# Altium schematic symbol library libv1.SchLib: 82 symbols (part 2 of 3)
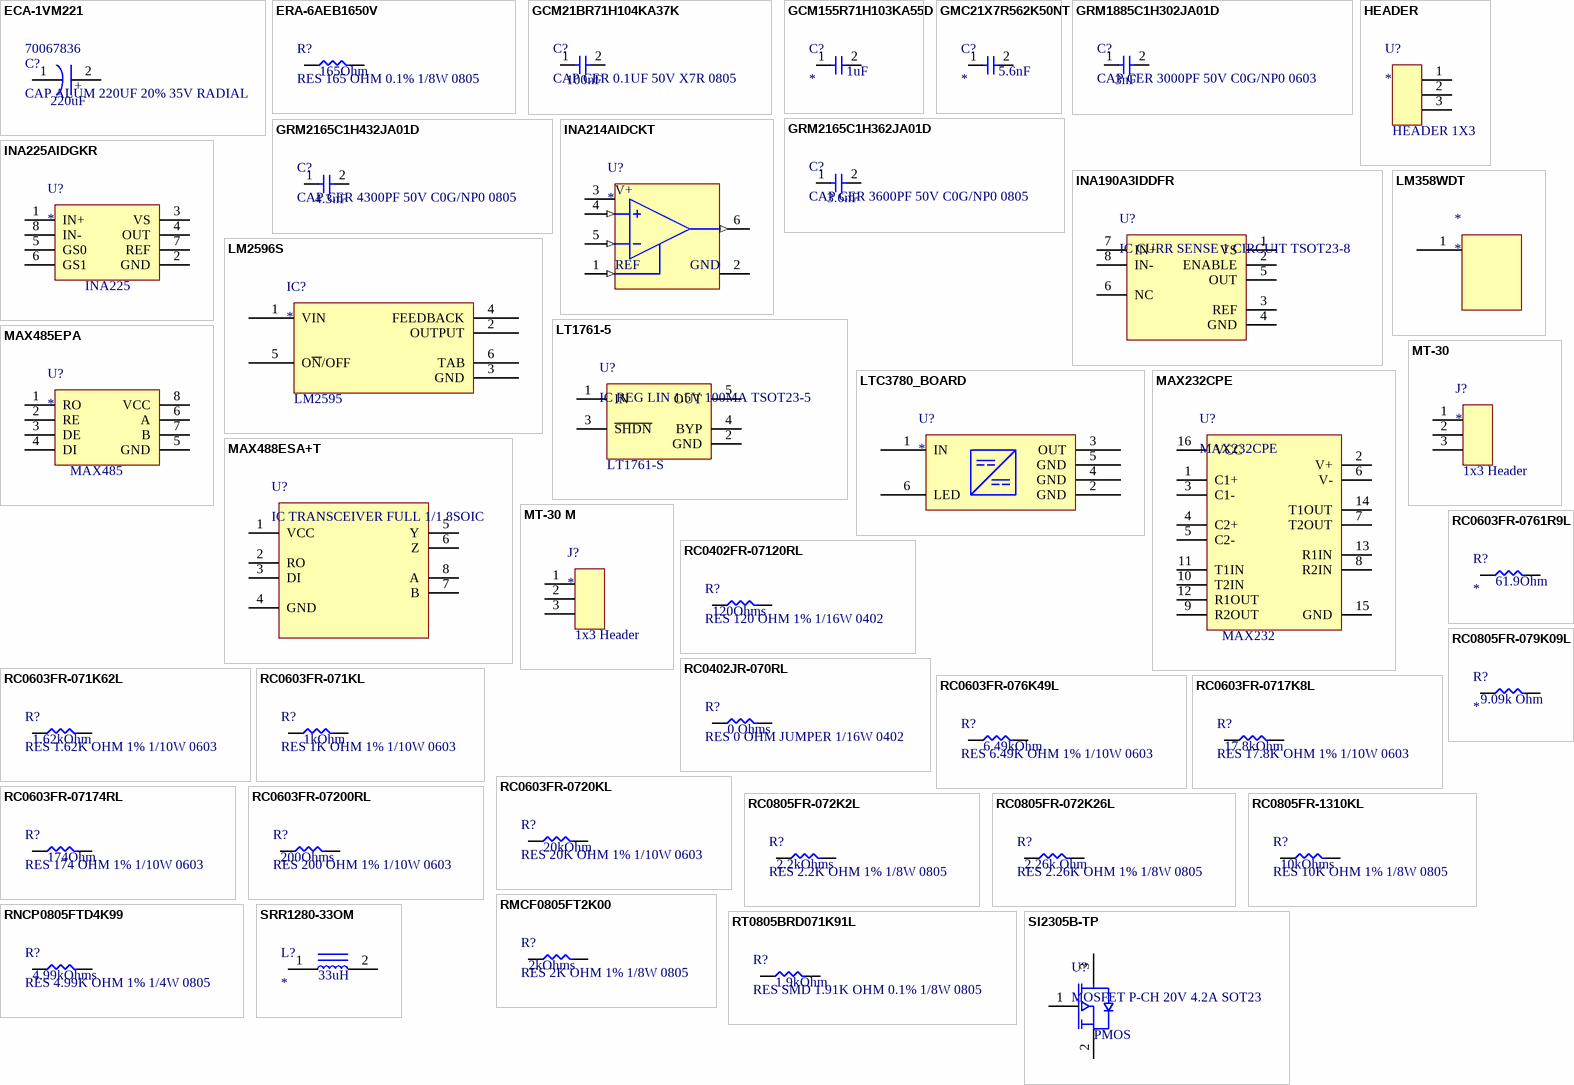
[diagram p3: symbols ECA-1VM221 to SRR1280-33OM]

## ECA-1VM221
designator C?, comment CAP ALUM 220UF 20% 35V RADIAL  Supplier Part Number 2: 70067836
Capacitor; Aluminum Electrolytic; Cap 220uF; Vol-Rtg 35V; Radial; nHg; Manufacturer: Panasonic; Manufacturer Part Number: ECA-1VM220; Dielectric Material: Aluminium; Capacitance: 22uF; Ripple Current: 95mA; Life (Hours): 2000Hour; Lead/Base Style: Straight; Leakage Current: 3uA; Dissipation Factor: 0.14%; Ripple Current (AC): 350mA; Polarity: Polar; Lead Diameter: 0.6mm; Supplier 1: Farnell; RoHS: Yes; Category: Aluminum Electrolytic Capacitors; Stock 1: 5363; Pricing 1: 1=0,37900, 5=0,31800, 10=0,25700, 25=0,25200 (EUR); Mount: Through Hole,PCB; Case/Package: Radial; Contact Plating: Tin; Min Operating Temperature: -40°C; Max Operating Temperature: 85°C; Tolerance: 20%; Termination: Radial; Packaging: Bulk; Package Quantity: 200; Voltage Rating: 35V; Voltage Rating (DC): 35V; Voltage: 35V; Series: M; Construction: RADIAL; Diameter: 5mm; Length: 11mm; Height: 11mm; Lead Pitch: 2mm; Height - Seated (Max): 0.472inch; Radiation Hardening: No; REACH SVHC: No SVHC; Lead Free: Lead Free; RoHS Compliant: Yes; ComponentLink1URL: https://datasheet.ciiva.com/11777/0900766b800274c2-11777874.pdf?src-supplier=RSComponents; ComponentLink1Description: https://datasheet.ciiva.com/11777/0900766b800274c2-11777874.pdf?src-supplier=RSComponents; ComponentLink2URL: https://datasheet.ciiva.com/15197/getdatasheetpartid-470870-15197994.pdf?src-supplier=Verical; ComponentLink2Description: https://datasheet.ciiva.com/15197/getdatasheetpartid-470870-15197994.pdf?src-supplier=Verical; ComponentLink3URL: https://datasheet.ciiva.com/14590/70067785-14590047.pdf?src-supplier=Allied+Electronics; ComponentLink3Description: https://datasheet.ciiva.com/14590/70067785-14590047.pdf?src-supplier=Allied+Electronics; ComponentLink4URL: https://datasheet.ciiva.com/2983/aba0000ce12-2983863.pdf?src-supplier=Avnet; ComponentLink4Description: https://datasheet.ciiva.com/2983/aba0000ce12-2983863.pdf?src-supplier=Avnet; ComponentLink5URL: https://datasheet.ciiva.com/15925/aba0000ce12-15925512.pdf?src-supplier=Onlinecomponents.com; ComponentLink5Description: https://datasheet.ciiva.com/15925/aba0000ce12-15925512.pdf?src-supplier=Onlinecomponents.com; ComponentLink6URL: https://datasheet.ciiva.com/30209/49aba0000ce12-30209319.pdf?src-supplier=Onlinecomponents.com; ComponentLink6Description: https://datasheet.ciiva.com/30209/49aba0000ce12-30209319.pdf?src-supplier=Onlinecomponents.com; ComponentLink7URL: https://datasheet.ciiva.com/17356/aba0000ce12-17356348.pdf?src-supplier=Avnet+Europe; ComponentLink7Description: https://datasheet.ciiva.com/17356/aba0000ce12-17356348.pdf?src-supplier=Avnet+Europe; ComponentLink8URL: https://datasheet.ciiva.com/91/eca-xxmspec-91375.pdf?src-supplier=Digi-Key; ComponentLink8Description: https://datasheet.ciiva.com/91/eca-xxmspec-91375.pdf?src-supplier=Digi-Key; Supplier Part Number 1: 9693645; Supplier 2: Allied Electronics; Stock 2: 19; Pricing 2: 1=0,16400 (USD); Number of Pins: 2; ComponentLink9URL: https://datasheet.ciiva.com/11777/0900766b800274c2-11777872.pdf?src-supplier=RSComponents; ComponentLink9Description: https://datasheet.ciiva.com/11777/0900766b800274c2-11777872.pdf?src-supplier=RSComponents; ComponentLink10URL: https://datasheet.ciiva.com/26341/441851-da-01-en-elko-eca1vm221-m-r-220myf-35v-85c-26341906.pdf?src-supplier=Conrad; ComponentLink10Description: https://datasheet.ciiva.com/26341/441851-da-01-en-elko-eca1vm221-m-r-220myf-35v-85c-26341906.pdf?src-supplier=Conrad; ComponentLink11URL: https://datasheet.ciiva.com/24023/aba0000ce12-465472-24023260.pdf?src-supplier=Mouser; ComponentLink11Description: https://datasheet.ciiva.com/24023/aba0000ce12-465472-24023260.pdf?src-supplier=Mouser; ComponentLink12URL: https://datasheet.ciiva.com/14590/70067785-14590042.pdf?src-supplier=Allied+Electronics; ComponentLink12Description: https://datasheet.ciiva.com/14590/70067785-14590042.pdf?src-supplier=Allied+Electronics; ComponentLink13URL: https://datasheet.ciiva.com/14601/70067785-14601242.pdf?src-supplier=Allied+Electronics; ComponentLink13Description: https://datasheet.ciiva.com/14601/70067785-14601242.pdf?src-supplier=Allied+Electronics; ComponentLink14URL: https://datasheet.ciiva.com/43485/aba0000ce12-43485334.pdf?src-supplier=Farnell; ComponentLink14Description: https://datasheet.ciiva.com/43485/aba0000ce12-43485334.pdf?src-supplier=Farnell; ComponentLink15URL: https://datasheet.ciiva.com/46387/1907780-46387398.pdf?src-supplier=Element14; ComponentLink15Description: https://datasheet.ciiva.com/46387/1907780-46387398.pdf?src-supplier=Element14; ComponentLink16URL: https://datasheet.ciiva.com/2983/aba0000ce12-2983864.pdf?src-supplier=Avnet; ComponentLink16Description: https://datasheet.ciiva.com/2983/aba0000ce12-2983864.pdf?src-supplier=Avnet; ComponentLink17URL: https://datasheet.ciiva.com/16426/aba0000ce12-16426383.pdf?src-supplier=Future+Electronics; ComponentLink17Description: https://datasheet.ciiva.com/16426/aba0000ce12-16426383.pdf?src-supplier=Future+Electronics; ComponentLink18URL: https://datasheet.ciiva.com/15166/getdatasheetpartid-178468-15166214.pdf?src-supplier=Verical; ComponentLink18Description: https://datasheet.ciiva.com/15166/getdatasheetpartid-178468-15166214.pdf?src-supplier=Verical; ComponentLink19URL: https://datasheet.ciiva.com/17356/aba0000ce12-17356350.pdf?src-supplier=Avnet+Europe; ComponentLink19Description: https://datasheet.ciiva.com/17356/aba0000ce12-17356350.pdf?src-supplier=Avnet+Europe
footprint ECA-1VM221
pins: 1, 2
text: +; 220uF

## ERA-6AEB1650V
designator R?, comment RES 165 OHM 0.1% 1/8W 0805
165 Ohms ±0.1% 0.125W, 1/8W Chip Resistor 0805 (2012 Metric) Automotive AEC-Q200 Thin Film
footprint ERA-6AEB1650V
pins: 1, 2
text: 165Ohm

## GCM21BR71H104KA37K
designator C?, comment CAP CER 0.1UF 50V X7R 0805
0.1 µF ±10% 50V Ceramic Capacitor X7R 0805 (2012 Metric)
footprint GCM21BR71H104KA37K
pins: 1, 2
text: 100nF

## GCM155R71H103KA55D
designator C?
0402 10 nF 50 V ±10 % Tolerance X7R Surface Mount Multilayer Ceramic Capacitor; Manufacturer: Murata; Manufacturer Part Number: GCM155R71H103KA55D; Capacitance: 10nF; Tolerance: 10%; Voltage Rating: 50V; Supplier 1: Digi-Key; RoHS: Yes; Category: Ceramic Capacitors; Stock 1: 21977680; Pricing 1: 10000=0,00504, 20000=0,00480 (USD); Mount: Surface Mount; Case/Package: 0402; Case Code (Imperial): 0402; Case Code (Metric): 1005; Min Operating Temperature: -55°C; Max Operating Temperature: 125°C; Dielectric: X7R; Packaging: Tape and Reel; Package Quantity: 1; Termination: SMD/SMT; Voltage: 50V; Voltage Rating (DC): 50V; Series: GCM; Construction: Flat; Length: 1mm; Width: 0.02inch; Height: 0.5mm; Thickness: 0.022inch; Depth: 0.5mm; Ratings: AEC-Q200; Radiation Hardening: No; REACH SVHC: No SVHC; Lead Free: Lead Free; RoHS Compliant: Yes; ComponentLink1URL: https://datasheet.ciiva.com/16199/product-16199584.pdf?src-supplier=Future+Electronics; ComponentLink1Description: https://datasheet.ciiva.com/16199/product-16199584.pdf?src-supplier=Future+Electronics; ComponentLink2URL: https://datasheet.ciiva.com/18100/getdatasheetpartid-27433-18100656.pdf?src-supplier=Verical; ComponentLink2Description: https://datasheet.ciiva.com/18100/getdatasheetpartid-27433-18100656.pdf?src-supplier=Verical; ComponentLink3URL: https://datasheet.ciiva.com/130/product-130682.pdf?src-supplier=Digi-Key; ComponentLink3Description: https://datasheet.ciiva.com/130/product-130682.pdf?src-supplier=Digi-Key; ComponentLink4URL: https://datasheet.ciiva.com/11787/0900766b80ef92d0-11787082.pdf?src-supplier=RSComponents; ComponentLink4Description: https://datasheet.ciiva.com/11787/0900766b80ef92d0-11787082.pdf?src-supplier=RSComponents; ComponentLink5URL: https://datasheet.ciiva.com/130/product-130683.pdf?src-supplier=Digi-Key; ComponentLink5Description: https://datasheet.ciiva.com/130/product-130683.pdf?src-supplier=Digi-Key; ComponentLink6URL: https://datasheet.ciiva.com/130/product-130684.pdf?src-supplier=Digi-Key; ComponentLink6Description: https://datasheet.ciiva.com/130/product-130684.pdf?src-supplier=Digi-Key; ComponentLink7URL: https://datasheet.ciiva.com/2989/product-2989235.pdf?src-supplier=Avnet; ComponentLink7Description: https://datasheet.ciiva.com/2989/product-2989235.pdf?src-supplier=Avnet; ComponentLink8URL: https://datasheet.ciiva.com/16624/product-16624550.pdf?src-supplier=Avnet+Europe; ComponentLink8Description: https://datasheet.ciiva.com/16624/product-16624550.pdf?src-supplier=Avnet+Europe; Supplier Part Number 1: 490-4762-2-ND
footprint GCM155R71H103KA55D
pins: 1, 2
text: 1uF

## GMC21X7R562K50NT
designator C?
5600 pF ±10% 50V Ceramic Capacitor X7R 0805 (2012 Metric)
footprint GMC21X7R562K50NT
pins: 1, 2
text: 5.6nF

## GRM1885C1H302JA01D
designator C?, comment CAP CER 3000PF 50V C0G/NP0 0603
3000 pF ±5% 50V Ceramic Capacitor C0G, NP0 0603 (1608 Metric)
footprint GRM1885C1H302JA01D
pins: 1, 2
text: 3nF

## GRM2165C1H362JA01D
designator C?, comment CAP CER 3600PF 50V C0G/NP0 0805
3600 pF ±5% 50V Ceramic Capacitor C0G, NP0 0805 (2012 Metric)
footprint GRM2165C1H432JA01D
pins: 1, 2
text: 3.6nF

## GRM2165C1H432JA01D
designator C?, comment CAP CER 4300PF 50V C0G/NP0 0805
4300 pF ±5% 50V Ceramic Capacitor C0G, NP0 0805 (2012 Metric)
footprint GRM2165C1H432JA01D
pins: 1, 2
text: 4.3nF

## HEADER
designator U?
footprint MT-30
pins: 1, 2, 3
text: HEADER 1X3

## INA190A3IDDFR
designator U?, comment IC CURR SENSE 1 CIRCUIT TSOT23-8
Current Sense Amplifier 1 Circuit Rail-to-Rail TSOT-23-8; Manufacturer: Texas Instruments; Manufacturer Part Number: INA190A3IDDFR; Supplier 1: Digi-Key; RoHS: Yes; Stock 1: 2977; Pricing 1: 1=2,92000, 10=2,62400, 25=2,48040, 100=2,14970, 250=2,03944, 500=1,82998, 1000=1,82000 (USD); Supplier 2: Digi-Key; Stock 2: 2977; Pricing 2: 1=2,92000, 10=2,62400, 25=2,48040, 100=2,14970, 250=2,03944, 500=1,82998, 1000=1,82000 (USD); Supplier Part Number 2: 296-INA190A3IDDFRCT-ND
footprint INA190A3IDDFR
pins: 1 VS, 2 ENABLE, 3 REF, 4 GND, 5 OUT, 6 NC, 7 IN+, 8 IN-

## INA214AIDCKT
designator U?
26V, bi-directional, high-precision current sense amplifier 6-SC70 -40 to 125; Manufacturer: Texas Instruments; Manufacturer Part Number: INA214AIDCKT; Min Supply Voltage: 2.7V; Gain Bandwidth Product: 30kHz; Bandwidth: 14kHz; Number of Channels: 1; Common Mode Rejection Ratio: 105dB; Nominal Supply Current: 65uA; Operating Supply Voltage: 24V; Accuracy: 1%; Input Offset Voltage (Vos): 60uV; Input Bias Current: 35uA; Voltage Gain: 40dB; Power Supply Rejection Ratio (PSRR): 140dB; Operating Supply Current: 115uA; Slew Rate: 0.04V/µs; Supplier 1: Digi-Key; RoHS: Yes; Category: Amplifiers - Op Amps, Buffer, Instrumentation; Stock 1: 10650; Pricing 1: 1=1,61000, 10=1,44900, 25=1,36720, 100=1,16500 (USD); Mount: Surface Mount; Case/Package: SC; Number of Pins: 6; Weight: 8.8E-05oz; Contact Plating: Gold; Min Operating Temperature: -40°C; Max Operating Temperature: 125°C; Max Supply Voltage: 26V; Packaging: Tape and Reel; Unity Gain Bandwidth Product: 14kHz; Package Quantity: 1; Number of Elements: 1; Min Input Voltage: 2.7V; Max Input Voltage: 26V; Number of Amplifiers: 1; Termination: SMD/SMT; Length: 2mm; Width: 1.25mm; Height: 0.9mm; Radiation Hardening: No; Lead Free: Lead Free; RoHS Compliant: Yes; REACH SVHC: No SVHC; ComponentLink1URL: https://datasheet.ciiva.com/1484/1831249-1484622.pdf?src-supplier=Element14; ComponentLink1Description: https://datasheet.ciiva.com/1484/1831249-1484622.pdf?src-supplier=Element14; ComponentLink2URL: https://datasheet.ciiva.com/15128/getdatasheetpartid-303216-15128686.pdf?src-supplier=Verical; ComponentLink2Description: https://datasheet.ciiva.com/15128/getdatasheetpartid-303216-15128686.pdf?src-supplier=Verical; ComponentLink3URL: https://datasheet.ciiva.com/1484/1772621-1484621.pdf?src-supplier=Element14; ComponentLink3Description: https://datasheet.ciiva.com/1484/1772621-1484621.pdf?src-supplier=Element14; ComponentLink4URL: https://datasheet.ciiva.com/22693/1848953-22693509.pdf?src-supplier=Element14; ComponentLink4Description: https://datasheet.ciiva.com/22693/1848953-22693509.pdf?src-supplier=Element14; ComponentLink5URL: https://datasheet.ciiva.com/46407/1772621-46407887.pdf?src-supplier=Element14; ComponentLink5Description: https://datasheet.ciiva.com/46407/1772621-46407887.pdf?src-supplier=Element14; ComponentLink6URL: https://datasheet.ciiva.com/1939/ina210-1939613.pdf?src-supplier=Digi-Key; ComponentLink6Description: https://datasheet.ciiva.com/1939/ina210-1939613.pdf?src-supplier=Digi-Key; ComponentLink7URL: https://datasheet.ciiva.com/1939/ina210-1939612.pdf?src-supplier=Digi-Key; ComponentLink7Description: https://datasheet.ciiva.com/1939/ina210-1939612.pdf?src-supplier=Digi-Key; ComponentLink8URL: https://datasheet.ciiva.com/1939/ina210-1939614.pdf?src-supplier=Digi-Key; ComponentLink8Description: https://datasheet.ciiva.com/1939/ina210-1939614.pdf?src-supplier=Digi-Key; ComponentLink9URL: https://datasheet.ciiva.com/2978/ina213-2978049.pdf?src-supplier=Avnet; ComponentLink9Description: https://datasheet.ciiva.com/2978/ina213-2978049.pdf?src-supplier=Avnet; ComponentLink10URL: https://datasheet.ciiva.com/2975/ina213-2975820.pdf?src-supplier=Avnet; ComponentLink10Description: https://datasheet.ciiva.com/2975/ina213-2975820.pdf?src-supplier=Avnet; ComponentLink11URL: https://datasheet.ciiva.com/41457/001013585-da-01-en-ic-current-monito-ina214aidckt-sot-6-tid-41457340.pdf?src-supplier=Conrad; ComponentLink11Description: https://datasheet.ciiva.com/41457/001013585-da-01-en-ic-current-monito-ina214aidckt-sot-6-tid-41457340.pdf?src-supplier=Conrad; Supplier Part Number 1: 296-23422-1-ND
footprint INA214AIDCKT
pins: 1 REF (in), 2 GND (power), 3 V+ (power), 4 IN+ (in), 5 IN- (in), 6 OUT (out)

## INA225AIDGKR
designator U?
ICMONITORPWR/CURBIDIR8VSSOP; Manufacturer: Texas Instruments; Manufacturer Part Number: INA186A3IDDFT; Supplier 1: Digi-Key; RoHS: Yes; Category: Amplifiers - Op Amps, Buffer, Instrumentation; Stock 1: 525; Pricing 1: 1=1,75000, 10=1,57300, 25=1,48400, 100=1,26440 (USD); Supplier 2: Digi-Key; Stock 2: 1921; Pricing 2: 2500=1,38950 (USD); Mount: Surface Mount; Case/Package: VSSOP; Min Operating Temperature: -40°C; Max Operating Temperature: 125°C; Packaging: Cut Tape; Lead Free: Lead Free; RoHS Compliant: Yes; ComponentLink1URL: http://www.ti.com/lit/ds/symlink/ina225.pdf?src-supplier=Digi-Key; ComponentLink1Description: http://www.ti.com/lit/ds/symlink/ina225.pdf?src-supplier=Digi-Key; ComponentLink2URL: http://www.ti.com/general/docs/suppproductinfo.tsp?distId=10&amp;gotoUrl=http%3A%2F%2Fwww.ti.com%2Flit%2Fgpn%2Fina225&src-supplier=Digi-Key; ComponentLink2Description: http://www.ti.com/general/docs/suppproductinfo.tsp?distId=10&amp;gotoUrl=http%3A%2F%2Fwww.ti.com%2Flit%2Fgpn%2Fina225&src-supplier=Digi-Key; ComponentLink3URL: http://www.ti.com/lit/gpn/ina225?src-supplier=Mouser; ComponentLink3Description: http://www.ti.com/lit/gpn/ina225?src-supplier=Mouser; Supplier Part Number 2: 296-46096-2-ND
pins: 1 IN+, 2 GND, 3 VS, 4 OUT, 5 GS0, 6 GS1, 7 REF, 8 IN-
text: INA225

## LM358WDT
designator *
pins: 1

## LM2596S
designator IC?
SIMPLE SWITCHER® 4.5V to 40V, 3A Low Component Count Step-Down Regulator 5-DDPAK/TO-263; Manufacturer: TI National Semiconductor; Manufacturer Part Number: LM2596S-5.0/NOPB; Output Voltage: 5V; Switching Frequency: 173kHz; Number of Outputs: 1; Quiescent Current: 5mA; Output Type: Fixed; Efficiency: 80%; Supplier 1: Mouser; RoHS: Yes; Category: Power Supply Modules; Stock 1: 36; Pricing 1: 1=7,15000, 10=6,46000, 50=6,16000, 100=5,34000, 1000=5,34000, 10000=5,34000 (USD); Mount: Surface Mount; Case/Package: TO-263; Number of Pins: 5; Weight: 0.25lb; Contact Plating: Tin,Matte; Min Operating Temperature: -40°C; Max Operating Temperature: 125°C; Output Current: 3A; Packaging: Rail/Tube; Min Input Voltage: 4.5V; Max Output Current: 3A; Max Input Voltage: 40V; Operating Supply Voltage: 40V; Package Quantity: 45; Series: LM2596; Nominal Output Voltage: 5V; Length: 10.16mm; Width: 8.64mm; Height: 4.57mm; Radiation Hardening: No; Lead Free: Contains Lead; REACH SVHC: No SVHC; Supplier 2: Farnell; Stock 2: 2251; Pricing 2: 1=6,90000, 10=5,63000, 25=5,32000, 50=4,97000, 100=4,62000 (EUR); ComponentLink1Description: Designed By; ComponentLink1URL: Süeda KORKMAZ
footprint LM2596S
pins: 1 VIN, 2 OUTPUT, 3 GND, 4 FEEDBACK, 5 O~{N}/OFF, 6 TAB
text: LM2595

## LT1761-5
designator U?, comment IC REG LIN 1.5V 100MA TSOT23-5
LDO Regulator Pos 1.5V 0.1A 5-Pin TSOT-23 T/R; Manufacturer: Analog Devices / Linear Technology; Manufacturer Part Number: LT1761ES5-1.5#TRMPBF; Max Supply Voltage: 20V; Min Supply Voltage: 2.5V; Dropout Voltage: 300mV; Number of Outputs: 1; Min Input Voltage: 1.8V; Min Current Limit: 110mA; Polarity: Positive; Operating Supply Current: 20uA; Power Supply Rejection Ratio (PSRR): 65dB; Supplier 1: Digi-Key; RoHS: Yes; Category: Voltage Regulators - Linear; Stock 1: 1805; Pricing 1: 1=2,98000, 10=2,67400, 25=2,52800, 100=2,19100, 250=2,07864 (USD); Case/Package: SOT-23-5; Number of Pins: 5; Min Operating Temperature: -40°C; Max Operating Temperature: 125°C; Package Quantity: 1; Output Current: 100mA; Max Output Current: 100mA; Output Voltage: 1.5V; Packaging: Tape and Reel; Max Input Voltage: 20V; Number of Regulators: 1; Max Output Voltage: 1.5V; Termination: SMD/SMT; Series: -; REACH SVHC: No SVHC; Lead Free: Lead Free; RoHS Compliant: Yes; ComponentLink1URL: https://datasheet.ciiva.com/26905/lt1761es5-1-5-trmpbf-26905955.pdf?src-supplier=IIIC; ComponentLink1Description: https://datasheet.ciiva.com/26905/lt1761es5-1-5-trmpbf-26905955.pdf?src-supplier=IIIC; ComponentLink2URL: https://datasheet.ciiva.com/2041/2732-2041159.pdf?src-supplier=Digi-Key; ComponentLink2Description: https://datasheet.ciiva.com/2041/2732-2041159.pdf?src-supplier=Digi-Key; ComponentLink3URL: https://datasheet.ciiva.com/5698/1441932-5698263.pdf?src-supplier=Farnell; ComponentLink3Description: https://datasheet.ciiva.com/5698/1441932-5698263.pdf?src-supplier=Farnell; ComponentLink4URL: https://datasheet.ciiva.com/2041/2732-2041160.pdf?src-supplier=Digi-Key; ComponentLink4Description: https://datasheet.ciiva.com/2041/2732-2041160.pdf?src-supplier=Digi-Key; ComponentLink5URL: https://datasheet.ciiva.com/2041/2732-2041161.pdf?src-supplier=Digi-Key; ComponentLink5Description: https://datasheet.ciiva.com/2041/2732-2041161.pdf?src-supplier=Digi-Key; Supplier Part Number 1: LT1761ES5-1.5#TRMPBFCT-ND
footprint LT1761ES5-1.5#TRMPBF
pins: 1 IN, 2 GND, 3 ~{SHDN}, 4 BYP, 5 OUT
text: LT1761-S

## LTC3780_BOARD
designator U?
footprint LTC3780_BOARD
pins: 1 IN, 2 GND, 3 OUT, 4 GND, 5 GND, 6 LED

## MAX232CPE
designator U?
MAX232 Series 120 kbps 5.5 V Through Hole RS-232 Transceiver - PDIP-16; Manufacturer: Maxim; Manufacturer Part Number: MAX232CPE+; Propagation Delay: 10us; Number of Transmitters: 2; Operating Supply Voltage: 5V; Min Supply Voltage: 4.5V; Max Supply Voltage: 5.5V; Operating Supply Current: 10mA; Number of Transceivers: 1; Supply Type: Single; Supplier 1: Farnell; RoHS: Yes; Category: RS-232 / RS-422 / RS-485 Interface ICs; Stock 1: 9660; Pricing 1: 1=4,80000, 10=3,86000, 25=3,63000, 50=3,48000, 100=3,32000, 250=3,29000, 500=3,24000 (EUR); Mount: Through Hole; Case/Package: PDIP; Number of Pins: 16; Weight: 0.056438oz; Contact Plating: Tin,Matte; Min Operating Temperature: 0°C; Max Operating Temperature: 70°C; Packaging: Rail/Tube; Package Quantity: 25; Number of Receivers: 2; Data Rate: 120Kbps; Interface: RS-232; Logic Function: Transceiver; Number of Drivers: 2; Type: Integrated Circuit (IC); Series: MAX232; Length: 19.43mm; Width: 7.87mm; Height: 4.45mm; Radiation Hardening: No; REACH SVHC: No SVHC; Lead Free: Lead Free; RoHS Compliant: Yes; ComponentLink1URL: https://datasheet.ciiva.com/22828/0900766b807c18c1-22828294.pdf?src-supplier=RSComponents; ComponentLink1Description: https://datasheet.ciiva.com/22828/0900766b807c18c1-22828294.pdf?src-supplier=RSComponents; ComponentLink2URL: https://datasheet.ciiva.com/29306/170049-da-01-en-ic-max232cpe-dip16-29306280.pdf?src-supplier=Conrad; ComponentLink2Description: https://datasheet.ciiva.com/29306/170049-da-01-en-ic-max232cpe-dip16-29306280.pdf?src-supplier=Conrad; ComponentLink3URL: https://datasheet.ciiva.com/26833/max232cpe-26833420.pdf?src-supplier=IIIC; ComponentLink3Description: https://datasheet.ciiva.com/26833/max232cpe-26833420.pdf?src-supplier=IIIC; ComponentLink4URL: https://datasheet.ciiva.com/26833/max232cpe-26833436.pdf?src-supplier=IIIC; ComponentLink4Description: https://datasheet.ciiva.com/26833/max232cpe-26833436.pdf?src-supplier=IIIC; ComponentLink5URL: https://datasheet.ciiva.com/18410/70157118-18410440.pdf?src-supplier=Allied+Electronics; ComponentLink5Description: https://datasheet.ciiva.com/18410/70157118-18410440.pdf?src-supplier=Allied+Electronics; ComponentLink6URL: https://datasheet.ciiva.com/3028/max220-max249-3028373.pdf?src-supplier=Avnet; ComponentLink6Description: https://datasheet.ciiva.com/3028/max220-max249-3028373.pdf?src-supplier=Avnet
footprint MAX232CPE
pins: 1 C1+, 2 V+, 3 C1-, 4 C2+, 5 C2-, 6 V-, 7 T2OUT, 8 R2IN, 9 R2OUT, 10 T2IN, 11 T1IN, 12 R1OUT, 13 R1IN, 14 T1OUT, 15 GND, 16 VCC

## MAX485EPA
designator U?
Single Transmitter/Receiver RS-422/RS-485 8-Pin PDIP N; Manufacturer: Maxim; Manufacturer Part Number: MAX485EPA+; Number of Transmitters: 1; Operating Supply Voltage: 5V; Logic Function: Transceiver; Data Rate: 2.5Mbps; Operating Supply Current: 500uA; Interface: RS-422,RS-485; Min Supply Voltage: 4.75V; Max Supply Voltage: 5.25V; Simplex/Duplex: Half Duplex; Designed By: Süeda KORKMAZ; Supplier 1: Farnell; RoHS: Yes; Category: RS-232 / RS-422 / RS-485 Interface ICs; Stock 1: 298; Pricing 1: 1=5,00000, 10=4,04000, 25=3,95000, 50=3,86000 (EUR); Mount: Through Hole; Case/Package: PDIP; Number of Pins: 8; Weight: 0.032805oz; Contact Plating: Tin,Matte; Min Operating Temperature: -40°C; Max Operating Temperature: 85°C; Packaging: Rail/Tube; Package Quantity: 50; Number of Receivers: 1; Number of Drivers: 1; Number of Transceivers: 1; Series: -; Length: 9.91mm; Width: 7.87mm; Height: 2.03mm; Radiation Hardening: No; REACH SVHC: Unknown; Lead Free: Lead Free; RoHS Compliant: Yes; ComponentLink1URL: https://datasheet.ciiva.com/30478/0900766b811dea1f-30478293.pdf?src-supplier=RSComponents; ComponentLink1Description: https://datasheet.ciiva.com/30478/0900766b811dea1f-30478293.pdf?src-supplier=RSComponents; ComponentLink2URL: https://datasheet.ciiva.com/29306/170075-da-01-en-ic-max485epa-dip8-29306150.pdf?src-supplier=Conrad; ComponentLink2Description: https://datasheet.ciiva.com/29306/170075-da-01-en-ic-max485epa-dip8-29306150.pdf?src-supplier=Conrad; ComponentLink3URL: https://datasheet.ciiva.com/26835/max485epa-26835690.pdf?src-supplier=IIIC; ComponentLink3Description: https://datasheet.ciiva.com/26835/max485epa-26835690.pdf?src-supplier=IIIC; ComponentLink4URL: https://datasheet.ciiva.com/3029/max1487-max491-3029663.pdf?src-supplier=Avnet; ComponentLink4Description: https://datasheet.ciiva.com/3029/max1487-max491-3029663.pdf?src-supplier=Avnet; ComponentLink5URL: https://datasheet.ciiva.com/16489/max1487-max491-16489861.pdf?src-supplier=Avnet+Asia; ComponentLink5Description: https://datasheet.ciiva.com/16489/max1487-max491-16489861.pdf?src-supplier=Avnet+Asia; ComponentLink6URL: https://datasheet.ciiva.com/1713/max1487-max491-1713276.pdf?src-supplier=Digi-Key; ComponentLink6Description: https://datasheet.ciiva.com/1713/max1487-max491-1713276.pdf?src-supplier=Digi-Key
footprint MAX485EPA
pins: 1 RO, 2 RE, 3 DE, 4 DI, 5 GND, 6 A, 7 B, 8 VCC
text: MAX485

## MAX488ESA+T
designator U?, comment IC TRANSCEIVER FULL 1/1 8SOIC
Single Transmitter/Receiver RS-422/RS-485 8-Pin SOIC N T/R / IC TXRX RS485/RS422 8-SOIC; Manufacturer: Maxim; Manufacturer Part Number: MAX488ESA+T; Number of Transmitters: 1; Operating Supply Voltage: 5V; Data Rate: 250Kbps; Logic Function: Transceiver,Receiver; Simplex/Duplex: Full Duplex; Receiver Hysteresis: 70mV; Nominal Supply Current: 250uA; ESD Protection: No; Supplier 1: Mouser; RoHS: Yes; Category: Interface ICs; Stock 1: 513; Pricing 1: 1=3,91000, 10=3,50000, 50=3,30000, 100=3,02000, 1000=2,88000, 10000=2,78000 (USD); Mount: Surface Mount; Case/Package: SOIC; Number of Pins: 8; Contact Plating: Tin,Matte; Min Operating Temperature: -40°C; Max Operating Temperature: 85°C; Packaging: Tape and Reel; Package Quantity: 2500; Number of Receivers: 1; Number of Drivers: 1; Number of Transceivers: 1; Series: -; Supply Current: 250uA; Radiation Hardening: No; RoHS Compliant: Yes; Lead Free: Lead Free; ComponentLink1URL: https://datasheet.ciiva.com/26835/max488esa-t-26835093.pdf?src-supplier=IIIC; ComponentLink1Description: https://datasheet.ciiva.com/26835/max488esa-t-26835093.pdf?src-supplier=IIIC; ComponentLink2URL: https://datasheet.ciiva.com/1774/max1487-max491-1774679.pdf?src-supplier=Digi-Key; ComponentLink2Description: https://datasheet.ciiva.com/1774/max1487-max491-1774679.pdf?src-supplier=Digi-Key; ComponentLink3URL: https://datasheet.ciiva.com/12261/max1487-max491-96074-12261739.pdf?src-supplier=Mouser; ComponentLink3Description: https://datasheet.ciiva.com/12261/max1487-max491-96074-12261739.pdf?src-supplier=Mouser; ComponentLink4URL: https://datasheet.ciiva.com/3030/max1487-max491-3030094.pdf?src-supplier=Avnet; ComponentLink4Description: https://datasheet.ciiva.com/3030/max1487-max491-3030094.pdf?src-supplier=Avnet; ComponentLink5URL: https://datasheet.ciiva.com/16640/max1487-max491-16640622.pdf?src-supplier=Avnet+Europe; ComponentLink5Description: https://datasheet.ciiva.com/16640/max1487-max491-16640622.pdf?src-supplier=Avnet+Europe
footprint MAX488ESA+T
pins: 1 VCC, 2 RO, 3 DI, 4 GND, 5 Y, 6 Z, 7 B, 8 A

## MT-30
designator J?
footprint MT-30
pins: 1, 2, 3
text: 1x3 Header

## MT-30 M
designator J?
footprint MT30-M
pins: 1, 2, 3
text: 1x3 Header

## RC0402FR-07120RL
designator R?, comment RES 120 OHM 1% 1/16W 0402
Res General Purpose Thick Film 0402 120 Ohm 1% 1/16W ±100ppm/°C Molded Paper T/R; Manufacturer: Yageo; Manufacturer Part Number: RC0402FR-07120RL; Resistance: 120R; Power Rating: 62.5mW; Voltage Rating: 50V; Max Power Dissipation: 63mW; Supplier 1: Digi-Key; RoHS: Yes; Category: Chip SMD Resistors; Stock 1: 1648497; Pricing 1: 1=0,10000, 10=0,01600, 100=0,00660, 1000=0,00299, 2500=0,00259, 5000=0,00214 (USD); Case/Package: 0402; Case Code (Imperial): 0402; Case Code (Metric): 1005; Size Code: 0402; Min Operating Temperature: -55°C; Max Operating Temperature: 155°C; Package Quantity: 1; Tolerance: 1%; Packaging: Tape and Reel; Termination: SMD/SMT; Resistor Type: Thick Film; Number of Terminations: 2; Temperature Coefficient: 100ppm/°C; Features: Moisture Resistant; Series: RC; Resistance Tolerance: 1%; Construction: Rectangular; Technology: THICK FILM; Length: 1mm; Width: 0.02inch; Height: 0.016inch; Depth: 0.5mm; REACH SVHC: No SVHC; Military Standard: Not; Lead Free: Lead Free; RoHS Compliant: Yes; ComponentLink1URL: https://datasheet.ciiva.com/11808/0900766b80c66297-11808427.pdf?src-supplier=RSComponents; ComponentLink1Description: https://datasheet.ciiva.com/11808/0900766b80c66297-11808427.pdf?src-supplier=RSComponents; ComponentLink2URL: https://datasheet.ciiva.com/7849/1018594-7849830.pdf?src-supplier=Element14; ComponentLink2Description: https://datasheet.ciiva.com/7849/1018594-7849830.pdf?src-supplier=Element14; ComponentLink3URL: https://datasheet.ciiva.com/12667/pyu-rc0402-51-rohs-l-6-r-12667958.pdf?src-supplier=Mouser; ComponentLink3Description: https://datasheet.ciiva.com/12667/pyu-rc0402-51-rohs-l-6-r-12667958.pdf?src-supplier=Mouser; ComponentLink4URL: https://datasheet.ciiva.com/7849/1018594-7849831.pdf?src-supplier=Element14; ComponentLink4Description: https://datasheet.ciiva.com/7849/1018594-7849831.pdf?src-supplier=Element14; ComponentLink5URL: https://datasheet.ciiva.com/2453/pyu-r-int-thick-7-2453469.pdf?src-supplier=Digi-Key; ComponentLink5Description: https://datasheet.ciiva.com/2453/pyu-r-int-thick-7-2453469.pdf?src-supplier=Digi-Key; ComponentLink6URL: https://datasheet.ciiva.com/2453/pyu-r-int-thick-7-2453470.pdf?src-supplier=Digi-Key; ComponentLink6Description: https://datasheet.ciiva.com/2453/pyu-r-int-thick-7-2453470.pdf?src-supplier=Digi-Key; ComponentLink7URL: https://datasheet.ciiva.com/2453/pyu-r-int-thick-7-2453471.pdf?src-supplier=Digi-Key; ComponentLink7Description: https://datasheet.ciiva.com/2453/pyu-r-int-thick-7-2453471.pdf?src-supplier=Digi-Key; ComponentLink8URL: https://datasheet.ciiva.com/17423/pyu-rc0402-51-rohs-l-6-r-17423999.pdf?src-supplier=Future+Electronics; ComponentLink8Description: https://datasheet.ciiva.com/17423/pyu-rc0402-51-rohs-l-6-r-17423999.pdf?src-supplier=Future+Electronics; Supplier Part Number 1: 311-120LRCT-ND
footprint RC0402FR-07120RL
pins: 1, 2
text: 120Ohms

## RC0402JR-070RL
designator R?, comment RES 0 OHM JUMPER 1/16W 0402
Res Jumper Thick Film 0402 0 Ohm 5% 1/16W Molded SMD Paper T/R; Manufacturer: Yageo; Manufacturer Part Number: RC0402JR-070RL; Resistance: 0mR; Power Rating: 62.5mW; Voltage Rating: 50V; Max Power Dissipation: 63mW; Temperature Coefficient: 200ppm/°C; Supplier 1: Digi-Key; RoHS: Yes; Category: Chip SMD Resistors; Stock 1: 24575445; Pricing 1: 1=0,10000, 10=0,01200, 25=0,00840, 50=0,00640, 100=0,00470, 250=0,00360, 500=0,00288, 1000=0,00212, 5000=0,00152 (USD); Case/Package: 0402; Contact Plating: Tin,Matte; Case Code (Metric): 1005; Case Code (Imperial): 0402; Size Code: 0402; Min Operating Temperature: -55°C; Max Operating Temperature: 155°C; Resistor Type: Thick Film; Packaging: Tape and Reel; Tolerance: 5%; Number of Terminations: 2; Termination: SMD/SMT; Features: Moisture Resistant; Series: RC; Package Quantity: 1; Technology: THICK FILM; Resistance Tolerance: 5%; Construction: Rectangular; Length: 1mm; Width: 0.02inch; Height: 0.016inch; Depth: 0.5mm; Radiation Hardening: No; Lead Free: Lead Free; REACH SVHC: Unknown; RoHS Compliant: Yes; Military Standard: Not; Supplier Part Number 1: 311-0.0JRCT-ND
footprint RC0402JR-070RL
pins: 1, 2
text: 0 Ohms

## RC0603FR-071K62L
designator R?, comment RES 1.62K OHM 1% 1/10W 0603
贴片电阻 1620Ω ± 1.00% 0.1W ± 100ppm/℃ 0603; Manufacturer: Yageo; Manufacturer Part Number: RC0603FR-071K62L; Resistance: 1.62kR; Power Rating: 100mW; Voltage Rating: 75V; Temperature Coefficient: 100ppm/°C; Voltage Rating (DC): 50V; Tolarance: %1; Supplier 1: Avnet; RoHS: Yes; Category: Chip SMD Resistors; Stock 1: 10000; Pricing 1: 5000=0,00294, 10000=0,00293, 20000=0,00293, 30000=0,00195, 40000=0,00195, 50000=0,00195, 500000=0,00194 (USD); Case/Package: 0603; Case Code (Imperial): 0603; Case Code (Metric): 1608; Weight: 7.1E-05oz; Size Code: 0603; Min Operating Temperature: -55°C; Max Operating Temperature: 155°C; Tolerance: 1%; Packaging: Tape and Reel; Termination: SMD/SMT; Resistor Type: Thick Film; Features: Moisture Resistant; Series: RC; Max Power Dissipation: 100mW; Number of Terminations: 2; Construction: Rectangular; Length: 1.6mm; Width: 0.8mm; Height: 0.45mm; Depth: 0.8mm; Military Standard: Not; Lead Free: Lead Free; RoHS Compliant: Yes; ComponentLink1URL: https://datasheet.ciiva.com/15189/getdatasheetpartid-327906-15189637.pdf?src-supplier=Verical; ComponentLink1Description: https://datasheet.ciiva.com/15189/getdatasheetpartid-327906-15189637.pdf?src-supplier=Verical
footprint RC0603FR-071K62L
pins: 1, 2
text: 1.62kOhm

## RC0603FR-071KL
designator R?, comment RES 1K OHM 1% 1/10W 0603
Res Thick Film 0603 1K Ohm 1% 1/10W ±100ppm/°C Molded SMD SMD Paper T/R; Manufacturer: Yageo; Manufacturer Part Number: RC0603FR-071KL; Resistance: 1kR; Power Rating: 100mW; Voltage Rating: 50V; Supplier 1: Digi-Key; RoHS: Yes; Category: Chip SMD Resistors; Stock 1: 10436739; Pricing 1: 5000=0,00312 (USD); Case/Package: 0603; Contact Plating: Tin,Matte; Case Code (Imperial): 0603; Case Code (Metric): 1608; Size Code: 0603; Min Operating Temperature: -55°C; Max Operating Temperature: 155°C; Tolerance: 1%; Packaging: Tape and Reel; Temperature Coefficient: 100ppm/°C; Resistor Type: Thick Film; Termination: SMD/SMT; Features: Moisture Resistant; Series: RC; Max Power Dissipation: 100mW; Number of Terminations: 2; Technology: THICK FILM; Resistance Tolerance: 1%; Construction: Rectangular; Length: 1.6mm; Height: 0.45mm; Depth: 0.8mm; Radiation Hardening: No; REACH SVHC: No SVHC; Lead Free: Lead Free; Military Standard: Not; RoHS Compliant: Yes; ComponentLink1URL: https://datasheet.ciiva.com/11808/0900766b80f96399-11808081.pdf?src-supplier=RSComponents; ComponentLink1Description: https://datasheet.ciiva.com/11808/0900766b80f96399-11808081.pdf?src-supplier=RSComponents; ComponentLink2URL: https://datasheet.ciiva.com/7746/1686128-7746280.pdf?src-supplier=Element14; ComponentLink2Description: https://datasheet.ciiva.com/7746/1686128-7746280.pdf?src-supplier=Element14; ComponentLink3URL: https://datasheet.ciiva.com/7660/1868787-7660790.pdf?src-supplier=Element14; ComponentLink3Description: https://datasheet.ciiva.com/7660/1868787-7660790.pdf?src-supplier=Element14; ComponentLink4URL: https://datasheet.ciiva.com/7983/443971-7983613.pdf?src-supplier=Element14; ComponentLink4Description: https://datasheet.ciiva.com/7983/443971-7983613.pdf?src-supplier=Element14; ComponentLink5URL: https://datasheet.ciiva.com/7746/1738695-7746281.pdf?src-supplier=Element14; ComponentLink5Description: https://datasheet.ciiva.com/7746/1738695-7746281.pdf?src-supplier=Element14; ComponentLink6URL: https://datasheet.ciiva.com/7746/1738695-7746279.pdf?src-supplier=Element14; ComponentLink6Description: https://datasheet.ciiva.com/7746/1738695-7746279.pdf?src-supplier=Element14; ComponentLink7URL: https://datasheet.ciiva.com/8896/pyu-rc0603-51-rohs-l-4-8896106.pdf?src-supplier=Avnet; ComponentLink7Description: https://datasheet.ciiva.com/8896/pyu-rc0603-51-rohs-l-4-8896106.pdf?src-supplier=Avnet; ComponentLink8URL: https://datasheet.ciiva.com/15189/getdatasheetpartid-404327-15189644.pdf?src-supplier=Verical; ComponentLink8Description: https://datasheet.ciiva.com/15189/getdatasheetpartid-404327-15189644.pdf?src-supplier=Verical; ComponentLink9URL: https://datasheet.ciiva.com/28386/pyu-rc0603-51-rohs-l-4-28386648.pdf?src-supplier=Avnet+Europe; ComponentLink9Description: https://datasheet.ciiva.com/28386/pyu-rc0603-51-rohs-l-4-28386648.pdf?src-supplier=Avnet+Europe; ComponentLink10URL: https://datasheet.ciiva.com/25906/pyu-rc0603-51-rohs-l-4-25906933.pdf?src-supplier=Avnet+Europe; ComponentLink10Description: https://datasheet.ciiva.com/25906/pyu-rc0603-51-rohs-l-4-25906933.pdf?src-supplier=Avnet+Europe
footprint RC0603FR-071KL
pins: 1, 2
text: 1kOhm

## RC0603FR-076K49L
designator R?, comment RES 6.49K OHM 1% 1/10W 0603
6.49 kOhms ±1% 0.1W, 1/10W Chip Resistor 0603 (1608 Metric) Moisture Resistant Thick Film
footprint RC0603FR-076K49L
pins: 1, 2
text: 6.49kOhm

## RC0603FR-0717K8L
designator R?, comment RES 17.8K OHM 1% 1/10W 0603
17.8 kOhms ±1% 0.1W, 1/10W Chip Resistor 0603 (1608 Metric) Moisture Resistant Thick Film
pins: 1, 2
text: 17.8kOhm

## RC0603FR-0720KL
designator R?, comment RES 20K OHM 1% 1/10W 0603
Res General Purpose Thick Film 0603 20K Ohm 1% 1/10W ±100ppm/°C Molded SMD Paper T/R; Manufacturer: Yageo; Manufacturer Part Number: RC0603FR-0720KL; Resistance: 20kR; Voltage Rating (DC): 50V; Power Rating: 100mW; Supplier 1: Digi-Key; RoHS: Yes; Category: Chip SMD Resistors; Stock 1: 2535842; Pricing 1: 1=0,10000, 10=0,02400, 100=0,00970, 1000=0,00436, 2500=0,00378 (USD); Case/Package: 0603; Number of Pins: 2; Case Code (Imperial): 0603; Case Code (Metric): 1608; Size Code: 0603; Min Operating Temperature: -55°C; Max Operating Temperature: 155°C; Tolerance: 1%; Resistor Type: Thick Film; Temperature Coefficient: 100ppm/°C; Packaging: Tape and Reel; Voltage Rating: 50V; Package Quantity: 1; Termination: SMD/SMT; Number of Terminations: 2; Max Power Dissipation: 100mW; Features: Moisture Resistant; Series: RC; Technology: THICK FILM; Construction: Rectangular; Resistance Tolerance: 1%; Length: 0.063inch; Width: 0.031inch; Height: 0.022inch; Depth: 0.8mm; Lead Free: Lead Free; RoHS Compliant: Yes; REACH SVHC: No SVHC; Military Standard: Not; ComponentLink1URL: https://datasheet.ciiva.com/11808/0900766b80f96399-11808275.pdf?src-supplier=RSComponents; ComponentLink1Description: https://datasheet.ciiva.com/11808/0900766b80f96399-11808275.pdf?src-supplier=RSComponents; ComponentLink2URL: https://datasheet.ciiva.com/22747/443971-22747525.pdf?src-supplier=Element14; ComponentLink2Description: https://datasheet.ciiva.com/22747/443971-22747525.pdf?src-supplier=Element14; ComponentLink3URL: https://datasheet.ciiva.com/2453/pyu-r-int-thick-7-2453910.pdf?src-supplier=Digi-Key; ComponentLink3Description: https://datasheet.ciiva.com/2453/pyu-r-int-thick-7-2453910.pdf?src-supplier=Digi-Key; ComponentLink4URL: https://datasheet.ciiva.com/2453/pyu-r-int-thick-7-2453911.pdf?src-supplier=Digi-Key; ComponentLink4Description: https://datasheet.ciiva.com/2453/pyu-r-int-thick-7-2453911.pdf?src-supplier=Digi-Key; ComponentLink5URL: https://datasheet.ciiva.com/2453/pyu-r-int-thick-7-2453912.pdf?src-supplier=Digi-Key; ComponentLink5Description: https://datasheet.ciiva.com/2453/pyu-r-int-thick-7-2453912.pdf?src-supplier=Digi-Key; Supplier Part Number 1: 311-20.0KHRCT-ND
footprint RC0603FR-0720KL
pins: 1, 2
text: 20kOhm

## RC0603FR-0761R9L
designator R?
footprint RC0603FR-0761R9L
pins: 1, 2
text: 61.9Ohm

## RC0603FR-07174RL
designator R?, comment RES 174 OHM 1% 1/10W 0603
174 Ohms ±1% 0.1W, 1/10W Chip Resistor 0603 (1608 Metric) Moisture Resistant Thick Film
footprint RC0603FR-07174RL
pins: 1, 2
text: 174Ohm

## RC0603FR-07200RL
designator R?, comment RES 200 OHM 1% 1/10W 0603
Res General Purpose Thick Film 0603 200 Ohm 1% 1/10W ±100ppm/°C Molded SMD Paper T/R; Manufacturer: Yageo; Manufacturer Part Number: RC0201JR-0710KL; Resistance: 10kR; Tolerance: 5%; Temperature Coefficient: 200ppm/°C; Power Rating: 50mW; Voltage Rating: 25V; Working Voltage: 75V; Supplier 1: Digi-Key; RoHS: Yes; Category: Chip SMD Resistors; Stock 1: 588676; Pricing 1: 1=0,10000, 10=0,02900, 100=0,01190, 1000=0,00536, 2500=0,00466, 5000=0,00385 (USD); Case/Package: 0201; Contact Plating: Tin,Matte; Case Code (Imperial): 0201; Case Code (Metric): 0603; Size Code: 0201; Min Operating Temperature: -55°C; Max Operating Temperature: 125°C; Resistor Type: Thick Film; Packaging: Tape and Reel; Termination: SMD/SMT; Voltage Rating (DC): 25V; Features: Moisture Resistant; Series: RC; Max Power Dissipation: 50mW; Number of Terminations: 2; Resistance Tolerance: 5%; Construction: Rectangular; Length: 0.6mm; Depth: 0.3mm; Radiation Hardening: No; REACH SVHC: Unknown; Military Standard: Not; Lead Free: Lead Free; RoHS Compliant: Yes; ComponentLink1URL: https://datasheet.ciiva.com/8891/pyu-rc0201-51-rohs-l-8-8891388.pdf?src-supplier=Avnet; ComponentLink1Description: https://datasheet.ciiva.com/8891/pyu-rc0201-51-rohs-l-8-8891388.pdf?src-supplier=Avnet; ComponentLink2URL: https://datasheet.ciiva.com/7672/1563626-7672253.pdf?src-supplier=Element14; ComponentLink2Description: https://datasheet.ciiva.com/7672/1563626-7672253.pdf?src-supplier=Element14; ComponentLink3URL: https://datasheet.ciiva.com/28405/pyu-rc0201-51-rohs-l-8-28405613.pdf?src-supplier=Avnet+Europe; ComponentLink3Description: https://datasheet.ciiva.com/28405/pyu-rc0201-51-rohs-l-8-28405613.pdf?src-supplier=Avnet+Europe; ComponentLink4URL: https://datasheet.ciiva.com/7672/1563626-7672254.pdf?src-supplier=Element14; ComponentLink4Description: https://datasheet.ciiva.com/7672/1563626-7672254.pdf?src-supplier=Element14; ComponentLink5URL: https://datasheet.ciiva.com/7660/1421516-7660810.pdf?src-supplier=Element14; ComponentLink5Description: https://datasheet.ciiva.com/7660/1421516-7660810.pdf?src-supplier=Element14; ComponentLink6URL: https://datasheet.ciiva.com/16856/pyu-rc0201-51-rohs-l-8-16856011.pdf?src-supplier=Avnet+Europe; ComponentLink6Description: https://datasheet.ciiva.com/16856/pyu-rc0201-51-rohs-l-8-16856011.pdf?src-supplier=Avnet+Europe; ComponentLink7URL: https://datasheet.ciiva.com/46391/1421516-46391291.pdf?src-supplier=Element14; ComponentLink7Description: https://datasheet.ciiva.com/46391/1421516-46391291.pdf?src-supplier=Element14; Supplier Part Number 1: 311-10KNCT-ND; Supplier 2: Digi-Key; Stock 2: 1724081; Pricing 2: 1=0,10000, 10=0,02400, 100=0,00970, 1000=0,00436, 2500=0,00378 (USD); Number of Pins: 2; Package Quantity: 5000; Technology: THICK FILM; Width: 0.8mm; Height: 0.45mm; ComponentLink8URL: https://datasheet.ciiva.com/11809/0900766b80f96399-11809240.pdf?src-supplier=RSComponents; ComponentLink8Description: https://datasheet.ciiva.com/11809/0900766b80f96399-11809240.pdf?src-supplier=RSComponents; ComponentLink9URL: https://datasheet.ciiva.com/46395/443971-46395029.pdf?src-supplier=Element14; ComponentLink9Description: https://datasheet.ciiva.com/46395/443971-46395029.pdf?src-supplier=Element14; Supplier Part Number 2: 311-200HRCT-ND
footprint RC0603FR-07200RL
pins: 1, 2
text: 200Ohms

## RC0805FR-072K2L
designator R?, comment RES 2.2K OHM 1% 1/8W 0805
2.2 kOhms ±1% 0.125W, 1/8W Chip Resistor 0805 (2012 Metric) Moisture Resistant Thick Film
footprint RC0805FR-072K2L
pins: 1, 2
text: 2.2kOhms

## RC0805FR-072K26L
designator R?, comment RES 2.26K OHM 1% 1/8W 0805
footprint RC0805FR-072K26L
pins: 1, 2
text: 2.26k Ohm

## RC0805FR-079K09L
designator R?
Res Thick Film 2.0 x 1.2 mm 9.09K Ohm 1% 0.125W(1/8W) 100ppm/ C Molded SMD Paper T/R; Manufacturer: Yageo; Manufacturer Part Number: RC0805FR-079K09L; Resistance: 9.09kR; Power Rating: 125mW; Voltage Rating: 150V; Temperature Coefficient: 100ppm/°C; Supplier 1: Digi-Key; RoHS: Yes; Category: Chip SMD Resistors; Stock 1: 28243; Pricing 1: 5000=0,00544 (USD); Case/Package: 0805; Case Code (Metric): 2012; Case Code (Imperial): 0805; Size Code: 0805; Min Operating Temperature: -55°C; Max Operating Temperature: 155°C; Tolerance: 1%; Packaging: Tape and Reel; Package Quantity: 1; Resistor Type: Thick Film; Number of Terminations: 2; Termination: SMD/SMT; Max Power Dissipation: 125mW; Voltage Rating (DC): 150V; Features: Moisture Resistant; Series: RC; Construction: Rectangular; Length: 2mm; Width: 0.049inch; Height: 0.024inch; Depth: 1.25mm; Military Standard: Not; Lead Free: Lead Free; RoHS Compliant: Yes; ComponentLink1URL: https://datasheet.ciiva.com/17082/rc0805-17082006.pdf?src-supplier=Future+Electronics; ComponentLink1Description: https://datasheet.ciiva.com/17082/rc0805-17082006.pdf?src-supplier=Future+Electronics; ComponentLink2URL: https://datasheet.ciiva.com/2457/pyu-r-int-thick-7-2457133.pdf?src-supplier=Digi-Key; ComponentLink2Description: https://datasheet.ciiva.com/2457/pyu-r-int-thick-7-2457133.pdf?src-supplier=Digi-Key; ComponentLink3URL: https://datasheet.ciiva.com/2457/pyu-r-int-thick-7-2457131.pdf?src-supplier=Digi-Key; ComponentLink3Description: https://datasheet.ciiva.com/2457/pyu-r-int-thick-7-2457131.pdf?src-supplier=Digi-Key; ComponentLink4URL: https://datasheet.ciiva.com/2457/pyu-r-int-thick-7-2457132.pdf?src-supplier=Digi-Key; ComponentLink4Description: https://datasheet.ciiva.com/2457/pyu-r-int-thick-7-2457132.pdf?src-supplier=Digi-Key
footprint RC0805FR-1310KL
pins: 1, 2
text: 9.09k Ohm

## RC0805FR-1310KL
designator R?, comment RES 10K OHM 1% 1/8W 0805
Res Thick Film 2.0 x 1.2 mm 10K Ohm 1% 0.125W(1/8W) 100ppm/ C Molded SMD Paper T/R; Manufacturer: Yageo; Manufacturer Part Number: RC0805FR-1310KL; Resistance: 10kR; Power Rating: 125mW; Voltage Rating: 150V; Temperature Coefficient: 100ppm/°C; Supplier 1: Digi-Key; RoHS: Yes; Category: Chip SMD Resistors; Stock 1: 79608; Pricing 1: 1=0,10000, 10=0,04200, 100=0,01690, 1000=0,00759, 2500=0,00659, 5000=0,00544 (USD); Case/Package: 0805; Number of Pins: 2; Case Code (Imperial): 0805; Case Code (Metric): 2012; Contact Plating: Tin,Matte,Lead; Min Operating Temperature: -55°C; Max Operating Temperature: 155°C; Tolerance: 1%; Packaging: Tape and Reel; Resistor Type: Thick Film; Termination: SMD/SMT; Voltage Rating (DC): 150V; Series: RC; Resistance Tolerance: 1%; Radiation Hardening: No; REACH SVHC: No SVHC; Lead Free: Lead Free; RoHS Compliant: Yes; ComponentLink1URL: http://www.mouser.com/ds/2/447/Yageo_08112016_RC0805-968729.pdf?src-supplier=Mouser; ComponentLink1Description: http://www.mouser.com/ds/2/447/Yageo_08112016_RC0805-968729.pdf?src-supplier=Mouser; ComponentLink2URL: http://components.arrow.com/part/dataview/0323_00200993?src-supplier=Arrow+Europe; ComponentLink2Description: http://components.arrow.com/part/dataview/0323_00200993?src-supplier=Arrow+Europe; ComponentLink3URL: http://www.farnell.com/datasheets/2167052.pdf?src-supplier=Farnell; ComponentLink3Description: http://www.farnell.com/datasheets/2167052.pdf?src-supplier=Farnell; ComponentLink4URL: http://www.farnell.com/datasheets/2167052.pdf?src-supplier=Element14; ComponentLink4Description: http://www.farnell.com/datasheets/2167052.pdf?src-supplier=Element14; ComponentLink5URL: http://www.farnell.com/datasheets/2167052.pdf?src-supplier=Newark; ComponentLink5Description: http://www.farnell.com/datasheets/2167052.pdf?src-supplier=Newark; ComponentLink6URL: http://www.yageo.com/pdf/PYu-RC0805_51_RoHS_L_4.pdf?src-supplier=Avnet; ComponentLink6Description: http://www.yageo.com/pdf/PYu-RC0805_51_RoHS_L_4.pdf?src-supplier=Avnet; ComponentLink7URL: http://www.yageo.com/documents/recent/PYu-RC0805_51_RoHS_L_5.pdf?src-supplier=Avnet+Europe; ComponentLink7Description: http://www.yageo.com/documents/recent/PYu-RC0805_51_RoHS_L_5.pdf?src-supplier=Avnet+Europe; Supplier Part Number 1: 13-RC0805FR-1310KLCT-ND
footprint RC0805FR-1310KL
pins: 1, 2
text: 10kOhms

## RMCF0805FT2K00
designator R?, comment RES 2K OHM 1% 1/8W 0805
footprint RMCF0805FT2K00
pins: 1, 2
text: 2kOhms

## RNCP0805FTD4K99
designator R?, comment RES 4.99K OHM 1% 1/4W 0805
footprint RNCP0805FTD4K99
pins: 1, 2
text: 4.99kOhms

## RT0805BRD071K91L
designator R?, comment RES SMD 1.91K OHM 0.1% 1/8W 0805
1.91 kOhms ±0.1% 0.125W, 1/8W Chip Resistor 0805 (2012 Metric) - Thin Film
footprint RT0805BRD071K91L
pins: 1, 2
text: 1.9kOhm

## SI2305B-TP
designator U?, comment MOSFET P-CH 20V 4.2A SOT23
P-Channel 20 V 4.2 A 60 mOhm Enhancement Mode Field Effect Transistor - SOT-23; Manufacturer: MCC; Manufacturer Part Number: SI2305B-TP; Rds On Max: 60mR; Input Capacitance: 740pF; Max Power Dissipation: 1.4W; Supplier 1: Digi-Key; RoHS: Yes; Stock 1: 26844; Pricing 1: 1=0,43000, 10=0,32200, 100=0,20060, 500=0,13728, 1000=0,10560 (USD); Mount: Surface Mount; Case/Package: SOT-23; Min Operating Temperature: -55°C; Max Operating Temperature: 150°C; Packaging: Tape and Reel; Drain to Source Voltage (Vdss): 20V; Continuous Drain Current (ID): 4.2A; RoHS Compliant: Yes; ComponentLink1URL: http://www.mccsemi.com/up_pdf/SI2305B(SOT-23)-A.pdf?src-supplier=Digi-Key; ComponentLink1Description: http://www.mccsemi.com/up_pdf/SI2305B(SOT-23)-A.pdf?src-supplier=Digi-Key
pins: 1, 2, 3
text: PMOS

## SRR1280-33OM
designator L?
Inductor Power Shielded Wirewound 33uH 20% 1KHz 28Q-Factor Ferrite 3.5A 0.057Ohm DCR T/R; Manufacturer: Bourns; Manufacturer Part Number: SRR1280-330M; Material: Steel; DC Resistance (DCR): 57mR; Saturation Current: 3.3A; Test Frequency: 100kHz; Self Resonant Frequency: 9.5MHz; Q Factor: 28; Supplier 1: Mouser; RoHS: Yes; Category: Fixed Inductors; Stock 1: 6101; Pricing 1: 1=1,36000, 10=1,02000, 50=1,02000, 100=0,91300, 1000=0,81600, 10000=0,81600 (USD); Mount: Surface Mount; Case/Package: Nonstandard; Number of Pins: 2; Core Material: Ferrite; Min Operating Temperature: -40°C; Max Operating Temperature: 125°C; Package Quantity: 400; Tolerance: 20%; Packaging: Tape and Reel; Inductance: 33uH; Max DC Current: 3.5A; Current Rating: 3.5A; Shielding: Shielded; Resistor Type: Wirewound; Termination: SMD/SMT; Series: SRR1280; DC Current: 3.5A; Inductance Tolerance: 20%; RMS Current (Irms): 3.5A; Resistance: 57MR; Frequency: 9.5MHz; Sample Rate (Hz): 100kHz; Length: 12.5mm; Width: 12.5mm; Height: 7.5mm; Depth: 12.8mm; Height - Seated (Max): 0.315inch; Radiation Hardening: No; Military Standard: Not; RoHS Compliant: Yes; REACH SVHC: No SVHC; ComponentLink1URL: https://datasheet.ciiva.com/11799/0900766b80ddd400-11799870.pdf?src-supplier=RSComponents; ComponentLink1Description: https://datasheet.ciiva.com/11799/0900766b80ddd400-11799870.pdf?src-supplier=RSComponents; ComponentLink2URL: https://datasheet.ciiva.com/17112/70277071-17112985.pdf?src-supplier=Allied+Electronics; ComponentLink2Description: https://datasheet.ciiva.com/17112/70277071-17112985.pdf?src-supplier=Allied+Electronics; ComponentLink3URL: https://datasheet.ciiva.com/8512/srr1280-8512893.pdf?src-supplier=Avnet; ComponentLink3Description: https://datasheet.ciiva.com/8512/srr1280-8512893.pdf?src-supplier=Avnet; ComponentLink4URL: https://datasheet.ciiva.com/6696/srr1280-6696735.pdf?src-supplier=Digi-Key; ComponentLink4Description: https://datasheet.ciiva.com/6696/srr1280-6696735.pdf?src-supplier=Digi-Key; ComponentLink5URL: https://datasheet.ciiva.com/17285/srr1280-17285215.pdf?src-supplier=Avnet+Europe; ComponentLink5Description: https://datasheet.ciiva.com/17285/srr1280-17285215.pdf?src-supplier=Avnet+Europe; ComponentLink6URL: https://datasheet.ciiva.com/30162/srr1280-30162751.pdf?src-supplier=Onlinecomponents.com; ComponentLink6Description: https://datasheet.ciiva.com/30162/srr1280-30162751.pdf?src-supplier=Onlinecomponents.com; ComponentLink7URL: https://datasheet.ciiva.com/48488/srr1280-48488287.pdf?src-supplier=Avnet; ComponentLink7Description: https://datasheet.ciiva.com/48488/srr1280-48488287.pdf?src-supplier=Avnet; Supplier Part Number 1: 652-SRR1280-330M
footprint SRR1280-33OM
pins: 1, 2

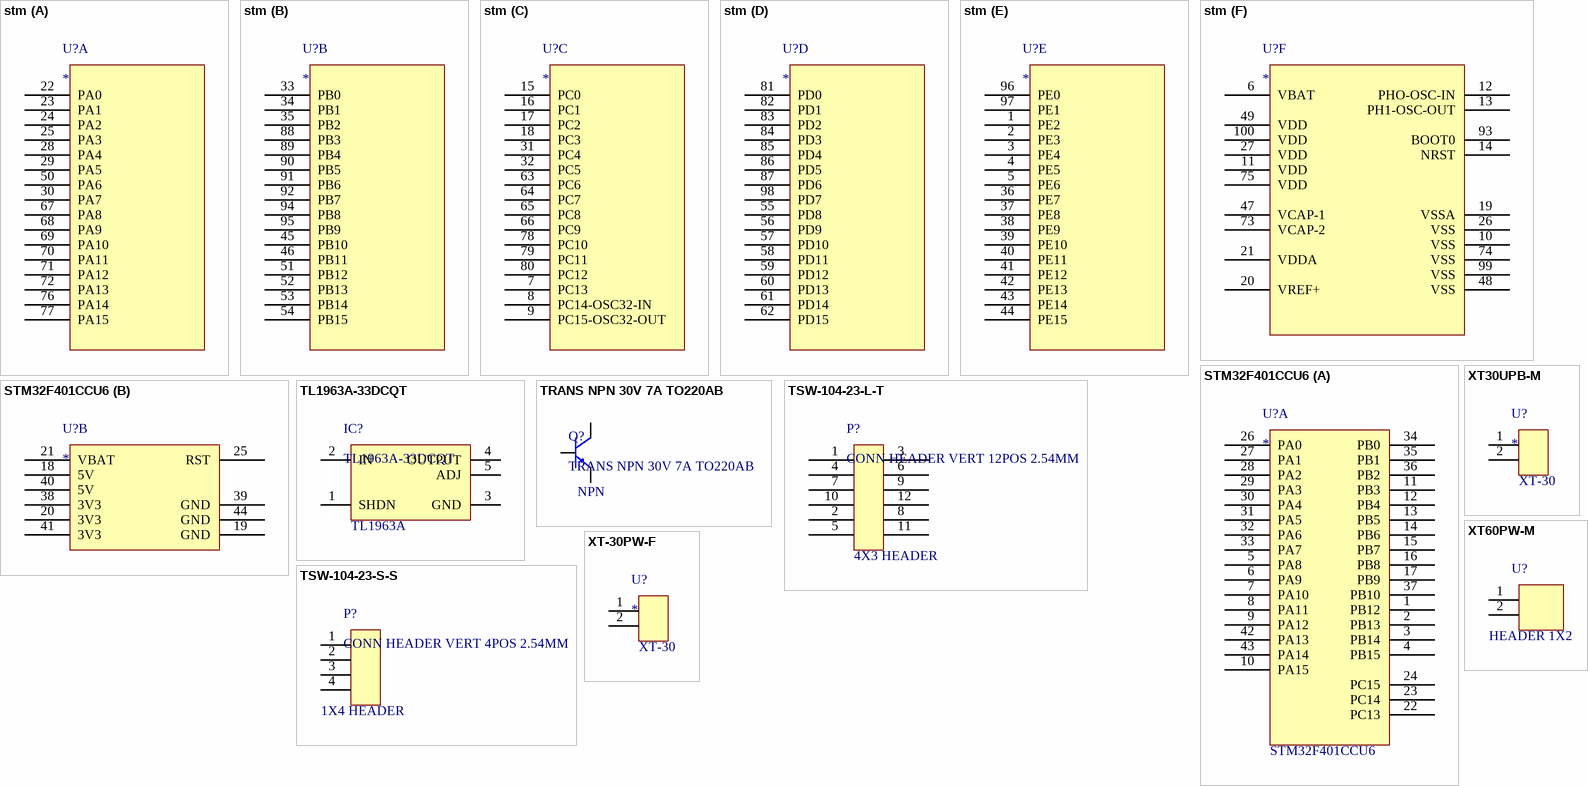
[diagram p2: symbols stm to XT-30PW-F]